# Altium footprint library 61410416021R.PcbLib: 1 footprints
Each footprint in its own frame and in the unit in brackets; x right, y up, seen from the top. Pads: shape width x height; smd on the part's side, far side on the other; paste and mask are expansions set on the pad; w line width, h text height; cw(c..) or ccw(c..) is an arc to the next point about the centre after c.
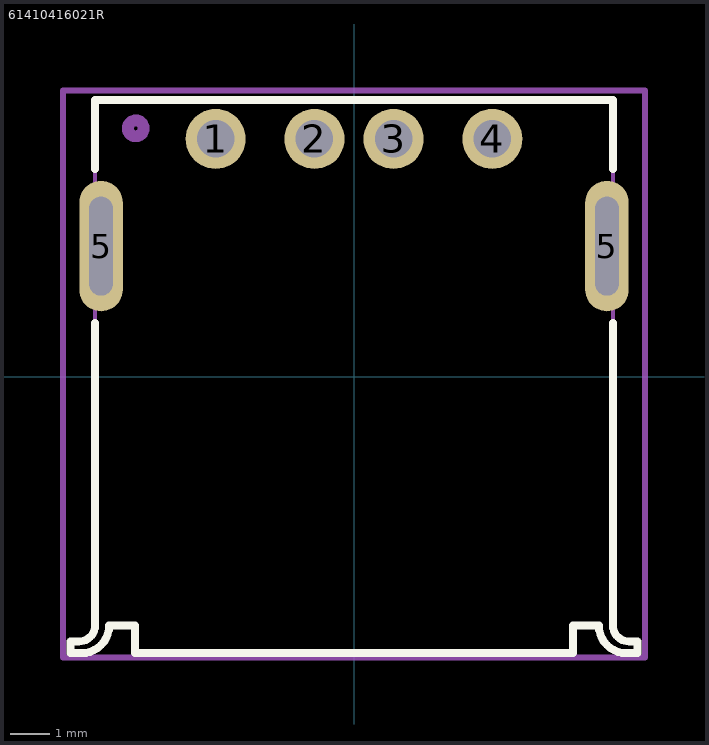
[diagram p0: the footprint, top view; thin cyan lines are the x and y axes]

## 61410416021R [mm] "USB Type A Horizontal THR"
height 7.25
pads (6):
  round 1.52 hole 0.95: 1(-3.5,6.01) 2(-1,6.01) 3(1,6.01) 4(3.5,6.01)
  oval 1.1x3.3 hole 0.6 slot 2.5 at 90 deg: 5(-6.4,3.3) 5(6.4,3.3)
Top Overlay:
  lines w0.2: -6.972,-6.7 -7.175,-6.7 -7.175,-7 -6.895,-7 ccw(c-6.895,-6.3) -6.195,-6.3 -5.545,-6.3 -5.545,-7 5.545,-7 5.545,-6.3 6.195,-6.3 ccw(c6.895,-6.3) 6.895,-7 7.175,-7 7.175,-6.7 6.972,-6.7 ; -6.972,-6.699 ccw(c-6.95,-6.3) -6.55,-6.3 -6.55,1.35 ; -6.55,5.25 -6.55,7 6.55,7 6.55,5.25 ; 6.55,1.35 6.55,-6.3 ccw(c6.95,-6.3) 6.972,-6.699
Top Assembly:
  circle w0.3: c-5.521,6.278 r0.2
  lines w0.1: -6.972,-6.7 -7.175,-6.7 -7.175,-7 -6.895,-7 ccw(c-6.895,-6.3) -6.195,-6.3 -5.545,-6.3 -5.545,-7 5.545,-7 5.545,-6.3 6.195,-6.3 ccw(c6.895,-6.3) 6.895,-7 7.175,-7 7.175,-6.7 6.972,-6.7 ; -6.972,-6.699 ccw(c-6.95,-6.3) -6.55,-6.3 -6.55,7 6.55,7 6.55,-6.3 ccw(c6.95,-6.3) 6.972,-6.699
  text "'.Designator'" at -5.715,1.905 h1
Top Courtyard:
  lines w0.15: -7.366,-7.112 -7.366,7.239 7.366,7.239 7.366,-7.112 -7.366,-7.112
3D body "61410416021R.stp": height 7.5, standoff -2.19, extent -7.225,-7 7.225,7